# Altium schematic symbol library STX-3501-3N.SchLib: 1 symbol
Pins are listed as number, name and electrical type; pins without a type are passive.

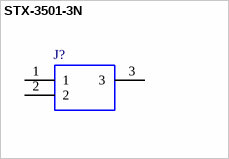
[diagram p0: symbol STX-3501-3N]

## STX-3501-3N
designator J?
Phone Connectors 3.5mm S LUGS STEREO 3P THRU HOLE; Manufacturer_Name: Kycon; Geometry.Height: 5mm; Manufacturer_Part_Number: STX-3501-3N; Mouser Part Number: 806-STX-3501-3N; Mouser Price/Stock: https://www.mouser.co.uk/ProductDetail/Kycon/STX-3501-3N?qs=BBNwCsfFaznpJt4o1Jp%2FTg%3D%3D; Arrow Part Number: *; Arrow Price/Stock: *; Mouser Testing Part Number: *; Mouser Testing Price/Stock: *; Datasheet Link: https://datasheet.datasheetarchive.com/originals/distributors/Datasheets_SAMA/ae9d1df0991347f2f81145ba35ca04dc.pdf
footprint STX35013N
pins: 1, 2, 3